# EAGLE library part E22-900M22S (library RFM1262)
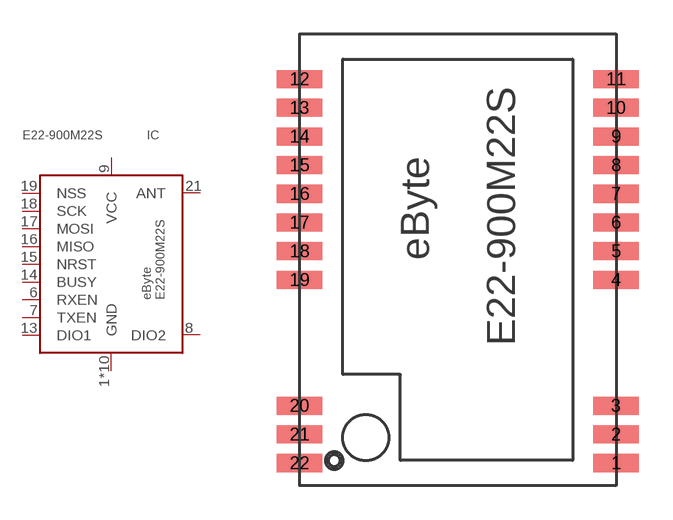
[diagram p3: symbol with the pads of E22-900M22S; footprint E22-900M22S]

Designator prefix IC

## E22-900M22S  [E22-900M22S]
1  GND  pwr
2  GND  pwr
3  GND  pwr
4  GND  pwr
5  GND  pwr
6  RXEN  in
7  TXEN
8  DIO2
9  VCC  pwr
10  GND  pwr
11  GND  pwr
12  GND  pwr
13  DIO1
14  BUSY
15  NRST
16  MISO
17  MOSI
18  SCK  in
19  NSS  in
20  GND  pwr
21  ANT  out
22  GND  pwr

## Footprint E22-900M22S (pad centres in mm)
smd 2 x 0.8: 1 7,-9; 2 7,-7.73; 3 7,-6.46; 4 7,-0.89; 5 7,0.38; 6 7,1.65; 7 7,2.92; 8 7,4.19; 9 7,5.46; 10 7,6.73; 11 7,8; 12 -7,8; 13 -7,6.73; 14 -7,5.46; 15 -7,4.19; 16 -7,2.92; 17 -7,1.65; 18 -7,0.38; 19 -7,-0.89; 20 -7,-6.46; 21 -7,-7.73; 22 -7,-9